# Altium footprint library ZX62-B-5PA(33).PcbLib: 1 footprints
Each footprint in its own frame and in the unit in brackets; x right, y up, seen from the top. Pads: shape width x height; smd on the part's side, far side on the other; paste and mask are expansions set on the pad; w line width, h text height; cw(c..) or ccw(c..) is an arc to the next point about the centre after c.
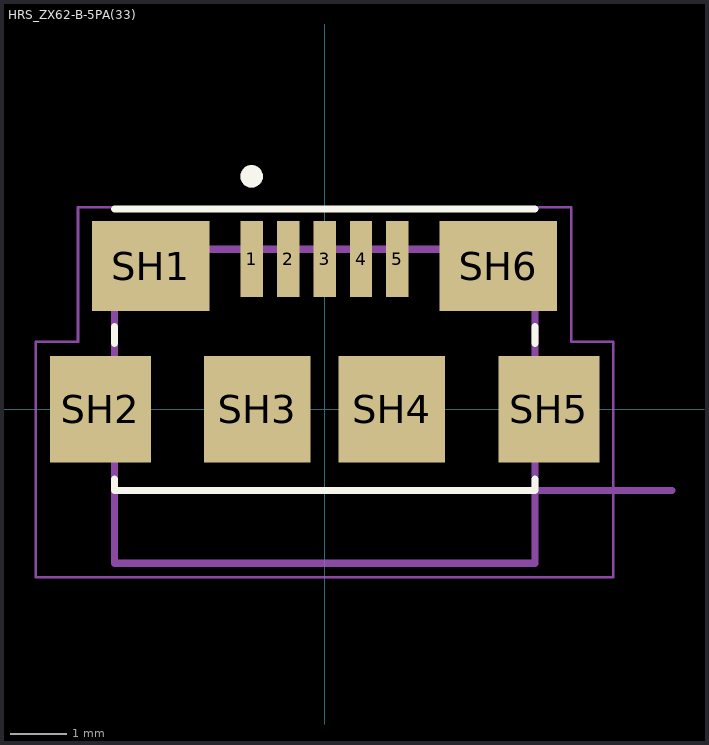
[diagram p0: the footprint, top view; thin cyan lines are the x and y axes]

## HRS_ZX62-B-5PA(33) [mm]
pads (11):
  rect 0.4x1.35 smd: 1(-1.3,2.675) 2(-0.65,2.675) 3(0,2.675) 4(0.65,2.675) 5(1.3,2.675)
  rect 2.1x1.6 smd: SH1(-3.1,2.55) SH6(3.1,2.55)
  rect 1.8x1.9 smd: SH2(-4,0) SH5(4,0)
  rect 1.9x1.9 smd: SH3(-1.2,0) SH4(1.2,0)
Top Overlay:
  circle w0.2: c-1.3,4.15 r0.1
  lines w0.127: -3.75,-1.25 -3.75,-1.45 3.75,-1.45 3.75,-1.25 ; -3.75,1.17 -3.75,1.47 ; -3.75,3.57 3.75,3.57 ; 3.75,1.17 3.75,1.47
Mechanical 13:
  circle w0.2: c-1.3,4.15 r0.1
  lines w0.127: 6.2,-1.45 3.75,-1.45 ; 3.75,-1.45 3.75,2.85 -3.75,2.85 -3.75,-2.75 3.75,-2.75 3.75,-1.45
  text "PCB EDGE" at 5.553,-1.301 h0.61
Mechanical 15:
  lines w0.05: -5.15,-3 -5.15,1.2 -4.4,1.2 -4.4,3.6 4.4,3.6 4.4,1.2 5.15,1.2 5.15,-3 -5.15,-3